# EAGLE library part SN74LV165APWR (library SHC)
The ?LV165A devices are parallel-load, 8-bit shift registers designed for 2-V to 5.5-V VCC operation. When the devices are clocked, data is shifted toward the serial output QH. Parallel-in access to each stage is provided by eight individual direct data inputs that are enabled by a low level at the shift/load (SH/LD) input. The ?LV165A devices feature a clock-inhibit function and a complemented serial output, QH.
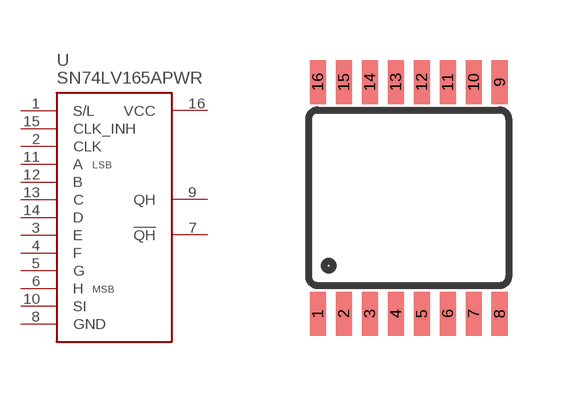
[diagram p27: symbol with the pads of TSOP-16; footprint TSOP-16]

Designator prefix -

## SN74LV165APWR  [TSOP-16]
1  S/L
2  CLK
3  E
4  F
5  G
6  H
7  !QH
8  GND
9  QH
10  SI
11  A
12  B
13  C
14  D
15  CLK_INH
16  VCC

## Footprint TSOP-16 (pad centres in mm)
smd 0.4 x 1.1: 1 -2.275,-2.9; 2 -1.625,-2.9; 3 -0.975,-2.9; 4 -0.325,-2.9; 5 0.325,-2.9; 6 0.975,-2.9; 7 1.625,-2.9; 8 2.275,-2.9; 9 2.275,2.9; 10 1.625,2.9; 11 0.975,2.9; 12 0.325,2.9; 13 -0.325,2.9; 14 -0.975,2.9; 15 -1.625,2.9; 16 -2.275,2.9